# EAGLE library part ADAFRUIT_RFM_LORA (library Adafruit_RFM_LoRa)
Adafruit RFM+LoRa Breakout
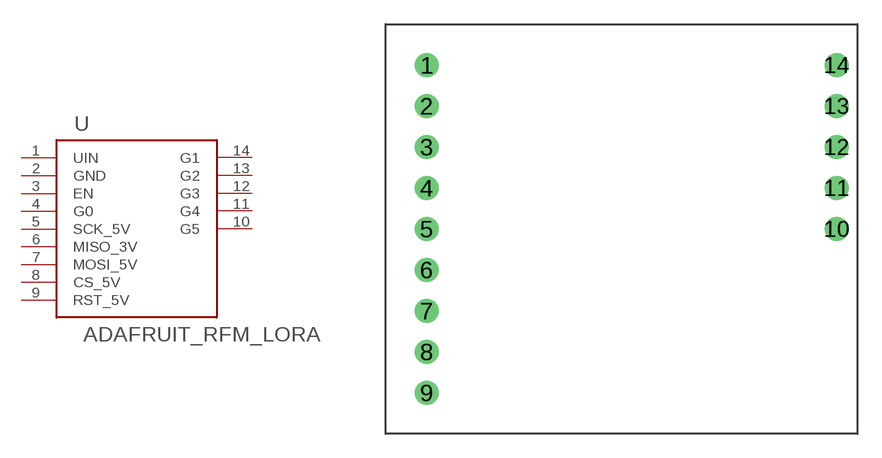
[diagram p0: symbol with the pads of ADAFRUIT_RFM_LORA_B; footprint ADAFRUIT_RFM_LORA_B]

Designator prefix -

## ADAFRUIT_RFM_LORA  [ADAFRUIT_RFM_LORA_B]
1  UIN  pwr
2  GND  pwr
3  EN  in
4  G0  out
5  SCK_5V  in
6  MISO_3V  out
7  MOSI_5V  in
8  CS_5V  in
9  RST_5V  in
10  G5
11  G4
12  G3
13  G2
14  G1

## Footprint ADAFRUIT_RFM_LORA_B (pad centres in mm)
drill 1: 1 -12.7,12.7; 2 -12.7,10.16; 3 -12.7,7.62; 4 -12.7,5.08; 5 -12.7,2.54; 6 -12.7,0; 7 -12.7,-2.54; 8 -12.7,-5.08; 9 -12.7,-7.62; 10 12.7,2.54; 11 12.7,5.08; 12 12.7,7.62; 13 12.7,10.16; 14 12.7,12.7